# Altium integrated library Infineon_Microcontroller.IntLib: 721 symbols (part 10 of 66)
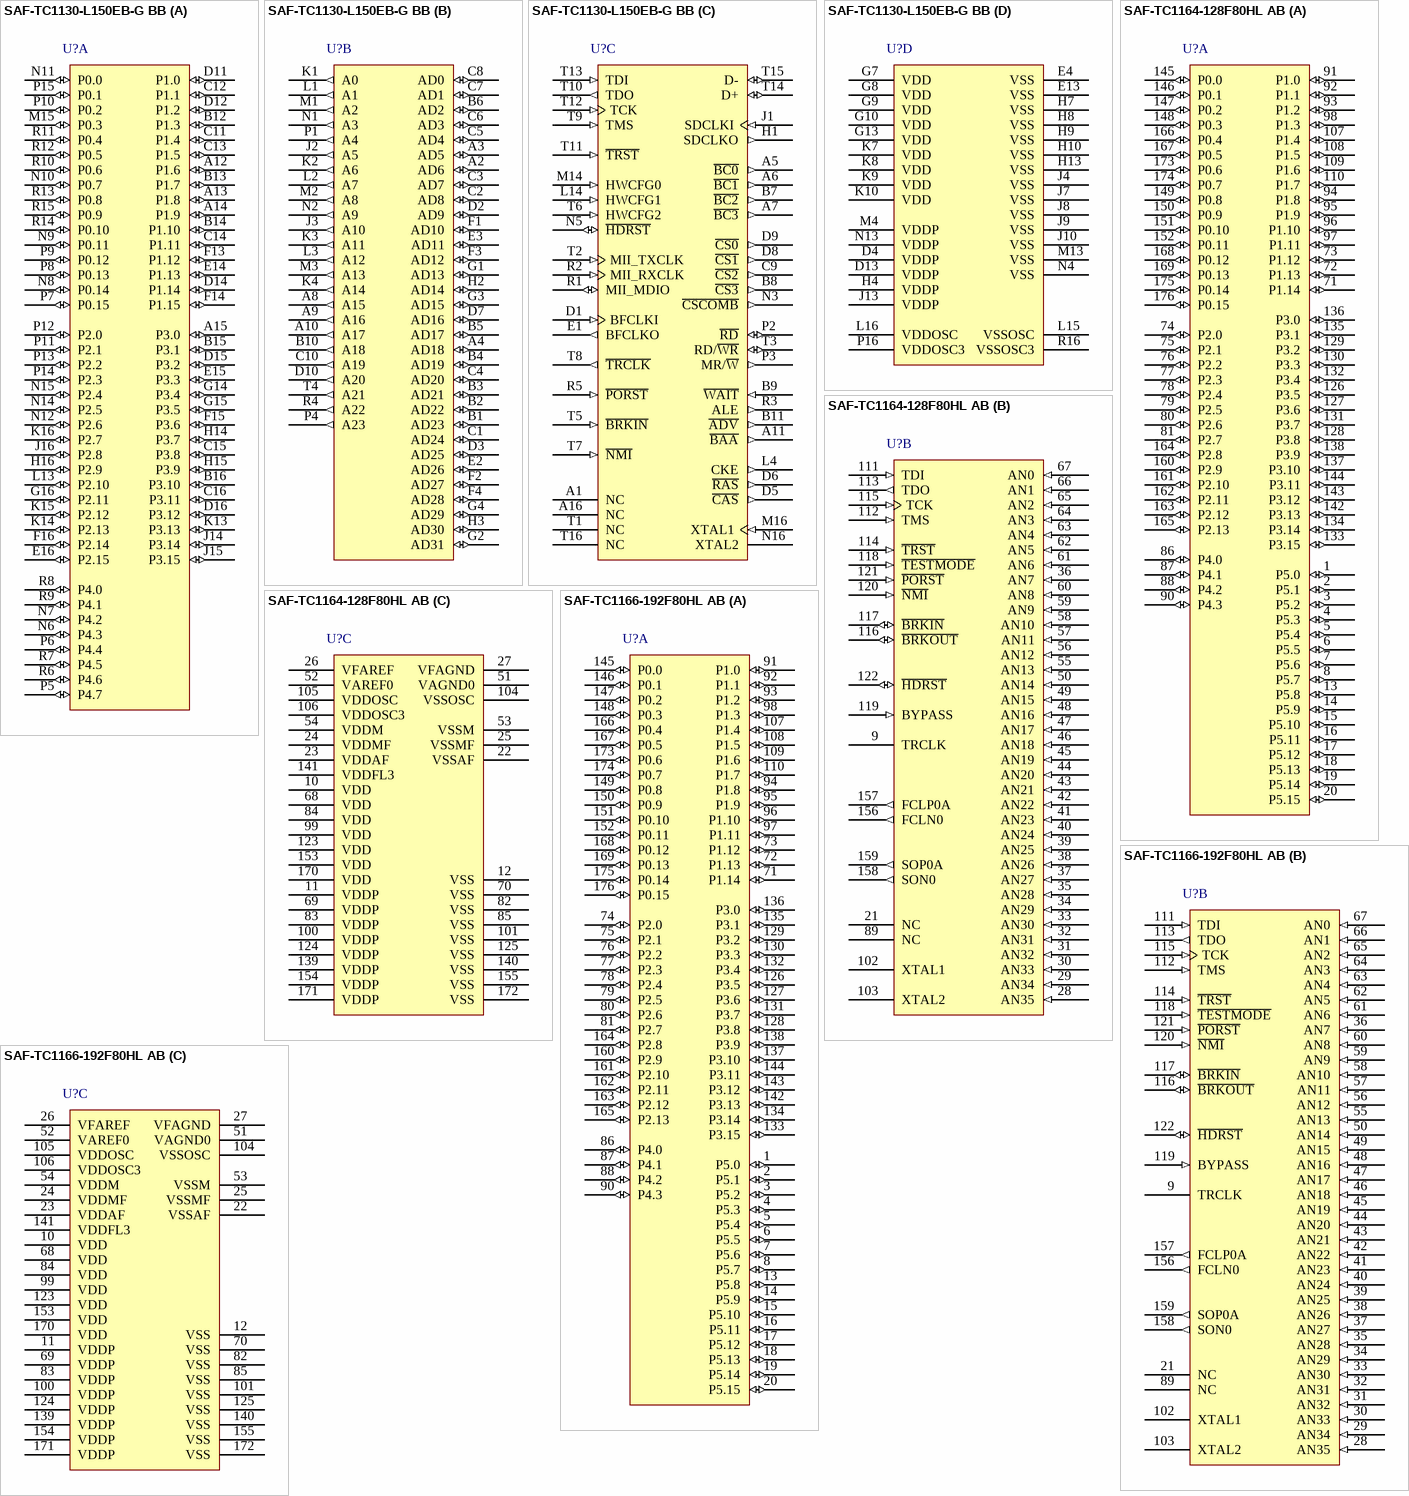
[diagram p127: symbols SAF-TC1130-L150EB-G BB to SAF-TC1166-192F80HL AB]

## SAF-TC1164-128F80HL AB
designator U?
80 MHz TriCore MCU with 1 MB Program Memory, 76 KByte SRAM, -40 to 85 degC, PG-LQFP-176-2, Green; Manufacturer: Infineon; PartNumber: SAF-TC1164-128F80HL AB; A / D input lines (incl. FADC): 36; CAN Nodes: 2; Green: TRUE; Max Clock Frequency: 80 MHz; Packing: Tray; Program Memory: 1 MB; DatasheetVersion: Rev. 1.0; PackageVersion: Jun-08; PackageReference: PG-LQFP-176-2; PackageDescription: 176-Pin Plastic (Green) Low Profile Quad Flat Package, Body 24 x 24 mm, Pitch 0.5 mm; Supplier 1: Digi-Key; Supplier Part Number 1: SAF-TC1164-128F80HL AB-ND; Halogen-free: TRUE; SRAM (incl. Cache): 76 KByte; Mounting Technology: Surface Mount; ComponentLink1Description: Manufacturer URL; ComponentLink1URL: http://www.infineon.com/; ComponentLink2Description: Datasheet; ComponentLink2URL: http://www.infineon.com/dgdl/TC1163_TC1164_ds_v10.pdf?folderId=db3a304412b407950112b408e8c90004&fileId=db3a304412b407950112b40b8a2e085b; ComponentLink3Description: Package Specification; ComponentLink3URL: http://www.infineon.com/dgdl/PG-LQFP-176-2-Package_Overview.pdf?folderId=db3a30431a5c32f2011a91a4a6285a2c&fileId=db3a30431a5c32f2011a91a4f6ee5a2d
footprint INF-PG-LQFP-176-2_N (QFP, 176-Leads, Body 24x24mm, Pitch 0.5mm, IPC Medium Density)
footprint INF-PG-LQFP-176-2_L (QFP, 176-Leads, Body 24x24mm, Pitch 0.5mm, IPC High Density)
footprint INF-PG-LQFP-176-2_M (QFP, 176-Leads, Body 24x24mm, Pitch 0.5mm, IPC Low Density)
part A pins: 1 P5.0 (io), 2 P5.1 (io), 3 P5.2 (io), 4 P5.3 (io), 5 P5.4 (io), 6 P5.5 (io), 7 P5.6 (io), 8 P5.7 (io), 13 P5.8 (io), 14 P5.9 (io), 15 P5.10 (io), 16 P5.11 (io), 17 P5.12 (io), 18 P5.13 (io), 19 P5.14 (io), 20 P5.15 (io), 71 P1.14 (io), 72 P1.13 (io), 73 P1.12 (io), 74 P2.0 (io), 75 P2.1 (io), 76 P2.2 (io), 77 P2.3 (io), 78 P2.4 (io), 79 P2.5 (io), 80 P2.6 (io), 81 P2.7 (io), 86 P4.0 (io), 87 P4.1 (io), 88 P4.2 (io), 90 P4.3 (io), 91 P1.0 (io), 92 P1.1 (io), 93 P1.2 (io), 94 P1.8 (io), 95 P1.9 (io), 96 P1.10 (io), 97 P1.11 (io), 98 P1.3 (io), 107 P1.4 (io), 108 P1.5 (io), 109 P1.6 (io), 110 P1.7 (io), 126 P3.5 (io), 127 P3.6 (io), 128 P3.8 (io), 129 P3.2 (io), 130 P3.3 (io), 131 P3.7 (io), 132 P3.4 (io), 133 P3.15 (io), 134 P3.14 (io), 135 P3.1 (io), 136 P3.0 (io), 137 P3.10 (io), 138 P3.9 (io), 142 P3.13 (io), 143 P3.12 (io), 144 P3.11 (io), 145 P0.0 (io), 146 P0.1 (io), 147 P0.2 (io), 148 P0.3 (io), 149 P0.8 (io), 150 P0.9 (io), 151 P0.10 (io), 152 P0.11 (io), 160 P2.9 (io), 161 P2.10 (io), 162 P2.11 (io), 163 P2.12 (io), 164 P2.8 (io), 165 P2.13 (io), 166 P0.4 (io), 167 P0.5 (io), 168 P0.12 (io), 169 P0.13 (io), 173 P0.6 (io), 174 P0.7 (io), 175 P0.14 (io), 176 P0.15 (io)
part B pins: 9 TRCLK (hiz) "Trace Clock for OCDS_L2 Lines", 21 NC "Not Connected", 28 AN35 (in) "Analog input 35", 29 AN34 (in) "Analog input 34", 30 AN33 (in) "Analog input 33", 31 AN32 (in) "Analog input 32", 32 AN31 (in) "Analog input 31", 33 AN30 (in) "Analog input 30", 34 AN29 (in) "Analog input 29", 35 AN28 (in) "Analog input 28", 36 AN7 (in) "Analog input 7", 37 AN27 (in) "Analog input 27", 38 AN26 (in) "Analog input 26", 39 AN25 (in) "Analog input 25", 40 AN24 (in) "Analog input 24", 41 AN23 (in) "Analog input 23", 42 AN22 (in) "Analog input 22", 43 AN21 (in) "Analog input 21", 44 AN20 (in) "Analog input 20", 45 AN19 (in) "Analog input 19", 46 AN18 (in) "Analog input 18", 47 AN17 (in) "Analog input 17", 48 AN16 (in) "Analog input 16", 49 AN15 (in) "Analog input 15", 50 AN14 (in) "Analog input 14", 55 AN13 (in) "Analog input 13", 56 AN12 (in) "Analog input 12", 57 AN11 (in) "Analog input 11", 58 AN10 (in) "Analog input 10", 59 AN9 (in) "Analog input 9", 60 AN8 (in) "Analog input 8", 61 AN6 (in) "Analog input 6", 62 AN5 (in) "Analog input 5", 63 AN4 (in) "Analog input 4", 64 AN3 (in) "Analog input 3", 65 AN2 (in) "Analog input 2", 66 AN1 (in) "Analog input 1", 67 AN0 (in) "Analog input 0", 89 NC "Not Connected", 102 XTAL1 "Oscillator/PLL/Clock Generator Input Pin", 103 XTAL2 "Oscillator/PLL/Clock Generator Output Pin", 111 TDI (in) "JTAG Module Serial Data Input", 112 TMS (in) "JTAG Module State Machine Control Input", 113 TDO (out) "JTAG Module Serial Data Output", 114 ~{TRST} (in) "JTAG Module Reset/Enable Input", 115 TCK (in) "JTAG Module Clock Input", 116 ~{BRKOUT} (io) "OCDS Break Output (Alternate Input)", 117 ~{BRKIN} (io) "OCDS Break Input (Alternate Output)", 118 ~{TESTMODE} (in) "Test Mode Select Input", 119 BYPASS (in) "PLL Clock Bypass Select Input", 120 ~{NMI} (in) "Non-Maskable Interrupt Input", 121 ~{PORST} (in) "Power-on Reset Input", 122 ~{HDRST} (io) "Hardware Reset Input / Reset Indication Output", 156 FCLN0 (out) "MSC0 Differential Driver Clock Output Negative", 157 FCLP0A (out) "MSC0 Differential Driver Clock Output Positive A", 158 SON0 (out) "MSC0 Differential Driver Serial Data Output Negative", 159 SOP0A (out) "MSC0 Differential Driver Serial Data Output Positive A"
part C pins: 10 VDD (power) "Core Power Supply (1.5 V)", 11 VDDP (power) "Port Power Supply (3.3 V)", 12 VSS (power) "Ground", 22 VSSAF (power) "FADC Analog Part Logic Ground for VDDAF", 23 VDDAF (power) "FADC Analog Part Logic Power Supply (1.5 V)", 24 VDDMF (power) "FADC Analog Part Power Supply (3.3 V)", 25 VSSMF (power) "FADC Analog Part Ground for VDDMF", 26 VFAREF (power) "FADC Reference Voltage", 27 VFAGND (power) "FADC Reference Ground", 51 VAGND0 (power) "ADC Reference Ground", 52 VAREF0 (power) "ADC Reference Voltage", 53 VSSM (power) "ADC Analog Part Ground for VDDM", 54 VDDM (power) "ADC Analog Part Power Supply (3.3 V)", 68 VDD (power) "Core Power Supply (1.5 V)", 69 VDDP (power) "Port Power Supply (3.3 V)", 70 VSS (power) "Ground", 82 VSS (power) "Ground", 83 VDDP (power) "Port Power Supply (3.3 V)", 84 VDD (power) "Core Power Supply (1.5 V)", 85 VSS (power) "Ground", 99 VDD (power) "Core Power Supply (1.5 V)", 100 VDDP (power) "Port Power Supply (3.3 V)", 101 VSS (power) "Ground", 104 VSSOSC (power) "Main Oscillator and PLL Ground", 105 VDDOSC (power) "Main Oscillator and PLL Power Supply (1.5 V)", 106 VDDOSC3 (power) "Main Oscillator Power Supply (3.3 V)", 123 VDD (power) "Core Power Supply (1.5 V)", 124 VDDP (power) "Port Power Supply (3.3 V)", 125 VSS (power) "Ground", 139 VDDP (power) "Port Power Supply (3.3 V)", 140 VSS (power) "Ground", 141 VDDFL3 (power) "Power Supply for Flash (3.3 V)", 153 VDD (power) "Core Power Supply (1.5 V)", 154 VDDP (power) "Port Power Supply (3.3 V)", 155 VSS (power) "Ground", 170 VDD (power) "Core Power Supply (1.5 V)", 171 VDDP (power) "Port Power Supply (3.3 V)", 172 VSS (power) "Ground"

## SAF-TC1166-192F80HL AB
designator U?
80 MHz TriCore MCU with 1 MB Program Memory, 100 KByte SRAM, -40 to 85 degC, PG-LQFP-176-2, Green; Manufacturer: Infineon; PartNumber: SAF-TC1166-192F80HL AB; A / D input lines (incl. FADC): 36; CAN Nodes: 2; Green: TRUE; Max Clock Frequency: 80 MHz; Packing: Tray; Program Memory: 1 MB; DatasheetVersion: Rev. 1.0; PackageVersion: Jun-08; PackageReference: PG-LQFP-176-2; PackageDescription: 176-Pin Plastic (Green) Low Profile Quad Flat Package, Body 24 x 24 mm, Pitch 0.5 mm; Halogen-free: FALSE; SRAM (incl. Cache): 100 KByte; Mounting Technology: Surface Mount; ComponentLink1Description: Manufacturer URL; ComponentLink1URL: http://www.infineon.com/; ComponentLink2Description: Datasheet; ComponentLink2URL: http://www.infineon.com/dgdl/TC1165_TC1166_ds_v10.pdf?folderId=db3a304412b407950112b408e8c90004&fileId=db3a304412b407950112b40c2ab80ab4; ComponentLink3Description: Package Specification; ComponentLink3URL: http://www.infineon.com/dgdl/PG-LQFP-176-2-Package_Overview.pdf?folderId=db3a30431a5c32f2011a91a4a6285a2c&fileId=db3a30431a5c32f2011a91a4f6ee5a2d
footprint INF-PG-LQFP-176-2_N (QFP, 176-Leads, Body 24x24mm, Pitch 0.5mm, IPC Medium Density)
footprint INF-PG-LQFP-176-2_L (QFP, 176-Leads, Body 24x24mm, Pitch 0.5mm, IPC High Density)
footprint INF-PG-LQFP-176-2_M (QFP, 176-Leads, Body 24x24mm, Pitch 0.5mm, IPC Low Density)
part A pins: 1 P5.0 (io), 2 P5.1 (io), 3 P5.2 (io), 4 P5.3 (io), 5 P5.4 (io), 6 P5.5 (io), 7 P5.6 (io), 8 P5.7 (io), 13 P5.8 (io), 14 P5.9 (io), 15 P5.10 (io), 16 P5.11 (io), 17 P5.12 (io), 18 P5.13 (io), 19 P5.14 (io), 20 P5.15 (io), 71 P1.14 (io), 72 P1.13 (io), 73 P1.12 (io), 74 P2.0 (io), 75 P2.1 (io), 76 P2.2 (io), 77 P2.3 (io), 78 P2.4 (io), 79 P2.5 (io), 80 P2.6 (io), 81 P2.7 (io), 86 P4.0 (io), 87 P4.1 (io), 88 P4.2 (io), 90 P4.3 (io), 91 P1.0 (io), 92 P1.1 (io), 93 P1.2 (io), 94 P1.8 (io), 95 P1.9 (io), 96 P1.10 (io), 97 P1.11 (io), 98 P1.3 (io), 107 P1.4 (io), 108 P1.5 (io), 109 P1.6 (io), 110 P1.7 (io), 126 P3.5 (io), 127 P3.6 (io), 128 P3.8 (io), 129 P3.2 (io), 130 P3.3 (io), 131 P3.7 (io), 132 P3.4 (io), 133 P3.15 (io), 134 P3.14 (io), 135 P3.1 (io), 136 P3.0 (io), 137 P3.10 (io), 138 P3.9 (io), 142 P3.13 (io), 143 P3.12 (io), 144 P3.11 (io), 145 P0.0 (io), 146 P0.1 (io), 147 P0.2 (io), 148 P0.3 (io), 149 P0.8 (io), 150 P0.9 (io), 151 P0.10 (io), 152 P0.11 (io), 160 P2.9 (io), 161 P2.10 (io), 162 P2.11 (io), 163 P2.12 (io), 164 P2.8 (io), 165 P2.13 (io), 166 P0.4 (io), 167 P0.5 (io), 168 P0.12 (io), 169 P0.13 (io), 173 P0.6 (io), 174 P0.7 (io), 175 P0.14 (io), 176 P0.15 (io)
part B pins: 9 TRCLK (hiz) "Trace Clock for OCDS_L2 Lines", 21 NC "Not Connected", 28 AN35 (in) "Analog input 35", 29 AN34 (in) "Analog input 34", 30 AN33 (in) "Analog input 33", 31 AN32 (in) "Analog input 32", 32 AN31 (in) "Analog input 31", 33 AN30 (in) "Analog input 30", 34 AN29 (in) "Analog input 29", 35 AN28 (in) "Analog input 28", 36 AN7 (in) "Analog input 7", 37 AN27 (in) "Analog input 27", 38 AN26 (in) "Analog input 26", 39 AN25 (in) "Analog input 25", 40 AN24 (in) "Analog input 24", 41 AN23 (in) "Analog input 23", 42 AN22 (in) "Analog input 22", 43 AN21 (in) "Analog input 21", 44 AN20 (in) "Analog input 20", 45 AN19 (in) "Analog input 19", 46 AN18 (in) "Analog input 18", 47 AN17 (in) "Analog input 17", 48 AN16 (in) "Analog input 16", 49 AN15 (in) "Analog input 15", 50 AN14 (in) "Analog input 14", 55 AN13 (in) "Analog input 13", 56 AN12 (in) "Analog input 12", 57 AN11 (in) "Analog input 11", 58 AN10 (in) "Analog input 10", 59 AN9 (in) "Analog input 9", 60 AN8 (in) "Analog input 8", 61 AN6 (in) "Analog input 6", 62 AN5 (in) "Analog input 5", 63 AN4 (in) "Analog input 4", 64 AN3 (in) "Analog input 3", 65 AN2 (in) "Analog input 2", 66 AN1 (in) "Analog input 1", 67 AN0 (in) "Analog input 0", 89 NC "Not Connected", 102 XTAL1 "Oscillator/PLL/Clock Generator Input Pin", 103 XTAL2 "Oscillator/PLL/Clock Generator Output Pin", 111 TDI (in) "JTAG Module Serial Data Input", 112 TMS (in) "JTAG Module State Machine Control Input", 113 TDO (out) "JTAG Module Serial Data Output", 114 ~{TRST} (in) "JTAG Module Reset/Enable Input", 115 TCK (in) "JTAG Module Clock Input", 116 ~{BRKOUT} (io) "OCDS Break Output (Alternate Input)", 117 ~{BRKIN} (io) "OCDS Break Input (Alternate Output)", 118 ~{TESTMODE} (in) "Test Mode Select Input", 119 BYPASS (in) "PLL Clock Bypass Select Input", 120 ~{NMI} (in) "Non-Maskable Interrupt Input", 121 ~{PORST} (in) "Power-on Reset Input", 122 ~{HDRST} (io) "Hardware Reset Input / Reset Indication Output", 156 FCLN0 (out) "MSC0 Differential Driver Clock Output Negative", 157 FCLP0A (out) "MSC0 Differential Driver Clock Output Positive A", 158 SON0 (out) "MSC0 Differential Driver Serial Data Output Negative", 159 SOP0A (out) "MSC0 Differential Driver Serial Data Output Positive A"
part C pins: 10 VDD (power) "Core Power Supply (1.5 V)", 11 VDDP (power) "Port Power Supply (3.3 V)", 12 VSS (power) "Ground", 22 VSSAF (power) "FADC Analog Part Logic Ground for VDDAF", 23 VDDAF (power) "FADC Analog Part Logic Power Supply (1.5 V)", 24 VDDMF (power) "FADC Analog Part Power Supply (3.3 V)", 25 VSSMF (power) "FADC Analog Part Ground for VDDMF", 26 VFAREF (power) "FADC Reference Voltage", 27 VFAGND (power) "FADC Reference Ground", 51 VAGND0 (power) "ADC Reference Ground", 52 VAREF0 (power) "ADC Reference Voltage", 53 VSSM (power) "ADC Analog Part Ground for VDDM", 54 VDDM (power) "ADC Analog Part Power Supply (3.3 V)", 68 VDD (power) "Core Power Supply (1.5 V)", 69 VDDP (power) "Port Power Supply (3.3 V)", 70 VSS (power) "Ground", 82 VSS (power) "Ground", 83 VDDP (power) "Port Power Supply (3.3 V)", 84 VDD (power) "Core Power Supply (1.5 V)", 85 VSS (power) "Ground", 99 VDD (power) "Core Power Supply (1.5 V)", 100 VDDP (power) "Port Power Supply (3.3 V)", 101 VSS (power) "Ground", 104 VSSOSC (power) "Main Oscillator and PLL Ground", 105 VDDOSC (power) "Main Oscillator and PLL Power Supply (1.5 V)", 106 VDDOSC3 (power) "Main Oscillator Power Supply (3.3 V)", 123 VDD (power) "Core Power Supply (1.5 V)", 124 VDDP (power) "Port Power Supply (3.3 V)", 125 VSS (power) "Ground", 139 VDDP (power) "Port Power Supply (3.3 V)", 140 VSS (power) "Ground", 141 VDDFL3 (power) "Power Supply for Flash (3.3 V)", 153 VDD (power) "Core Power Supply (1.5 V)", 154 VDDP (power) "Port Power Supply (3.3 V)", 155 VSS (power) "Ground", 170 VDD (power) "Core Power Supply (1.5 V)", 171 VDDP (power) "Port Power Supply (3.3 V)", 172 VSS (power) "Ground"

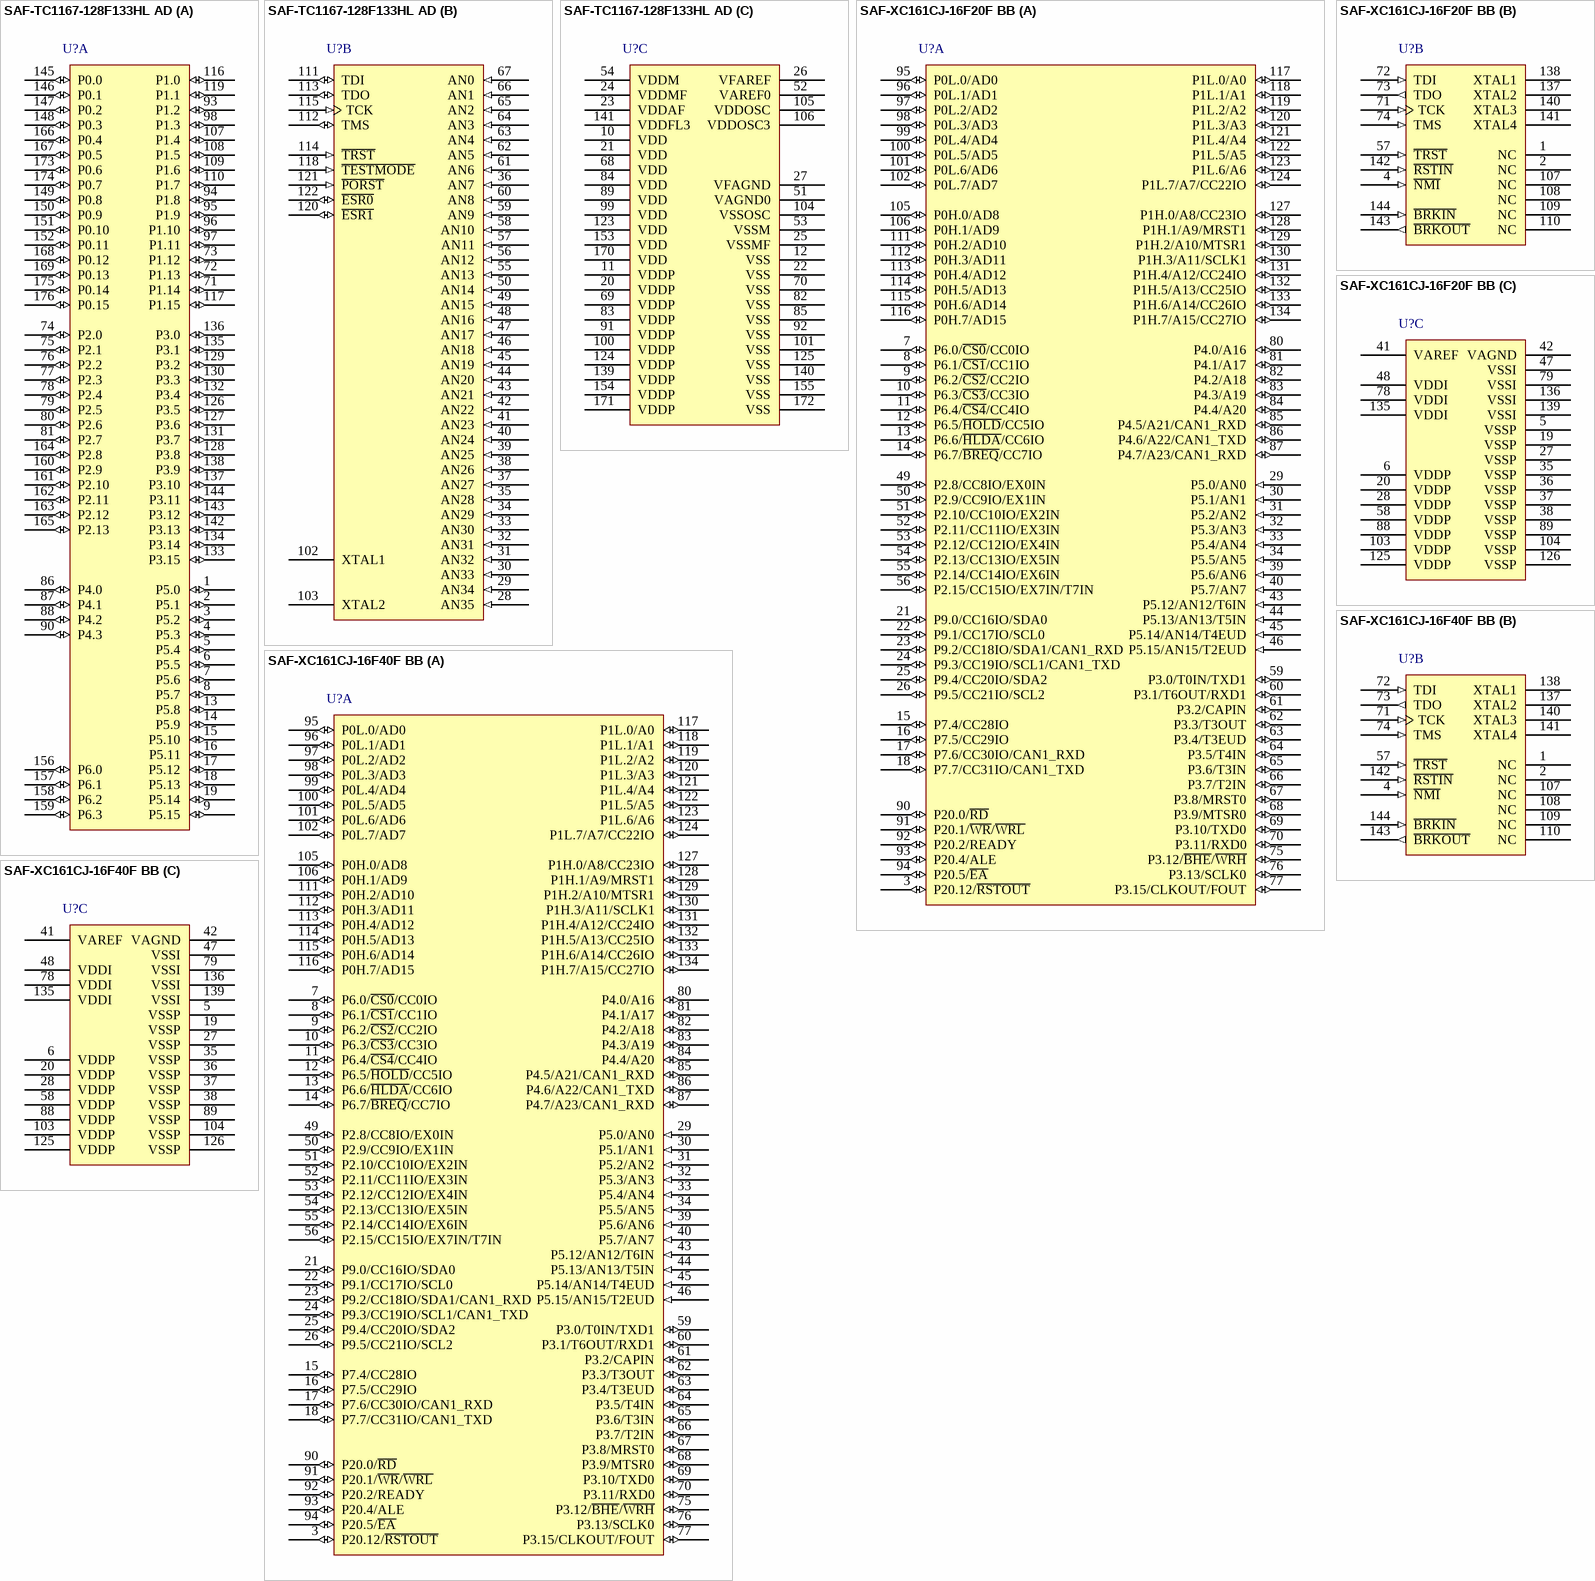
[diagram p15: symbols SAF-TC1167-128F133HL AD to SAF-XC161CJ-16F40F BB]

## SAF-TC1167-128F133HL AD
designator U?
133 MHz TC11 MCU with 1 MB Program Memory, 128 KByte SRAM, 3.3 V, 5.0 V, -40 to 85 degC, PG-LQFP-176, Reel, Green; Manufacturer: Infineon; PartNumber: SAF-TC1167-128F133HL AD; A / D input lines (incl. FADC): 36; CAN Nodes: 2; Digital I/O Lines: 86; DMA Channels: 8; DSP functionality (e.g MDU/MAC): TRUE; External Bus interface: FALSE; Instruction width [bits]: 32/16; Max Clock Frequency: 133 MHz; Power Modes: 3; Program Memory: 1 MB; Serial I/O Interfaces: 6; Timed I/O Pins (PWM-Ch,CAPCOM): 80; Timer / Counter: 130; Type of Memory: Flash; Type of Serial I/O Interfaces: ASC(2), SSC(2), MSC(1), MLI(1); DatasheetVersion: Rev. 1.3; PackageVersion: Aug-08; PackageReference: PG-LQFP-176-5; PackageDescription: 176-Pin Plastic (Green) Low Profile Quad Flat Package, Body 24 x 24 mm, Pitch 0.5 mm; Supplier 1: Digi-Key; Supplier Part Number 1: SAF-TC1167-128F133HL AD-ND; E2PROM Emulation (Data-Flash): TRUE; Floating Point Unit: TRUE; Green: TRUE; I/O Operation Voltages: 3.3 V, 5.0 V; Number of ADC Modules: 2; On-chip clock generation: TRUE; Oscillator Watchdog: TRUE; Packing: Reel; Peripheral Control Processor (PCP): TRUE; SRAM (incl. Cache): 128 KByte; Watchdog Timer: TRUE; Mounting Technology: Surface Mount; ComponentLink1Description: Manufacturer URL; ComponentLink1URL: http://www.infineon.com/; ComponentLink2Description: Datasheet; ComponentLink2URL: http://www.infineon.com/dgdl/TC1167_DS_V1.3.pdf?folderId=db3a304318f3fe2901190e815f285607&fileId=db3a3043243b5f170124777548ba4ec3; ComponentLink3Description: Package Specification; ComponentLink3URL: http://www.infineon.com/dgdl/PG-LQFP-176-5-Package_Overview.pdf?folderId=db3a30431b3e89eb011b9dcad2aa0d1e&fileId=db3a30431b3e89eb011bc12d64b30464
footprint INF-PG-LQFP-176-5_N (QFP, 176-Leads, Body 24x24mm, Pitch 0.5mm, IPC Medium Density)
footprint INF-PG-LQFP-176-5_L (QFP, 176-Leads, Body 24x24mm, Pitch 0.5mm, IPC High Density)
footprint INF-PG-LQFP-176-5_M (QFP, 176-Leads, Body 24x24mm, Pitch 0.5mm,IPC Low Density)
part A pins: 1 P5.0 (io), 2 P5.1 (io), 3 P5.2 (io), 4 P5.3 (io), 5 P5.4 (io), 6 P5.5 (io), 7 P5.6 (io), 8 P5.7 (io), 9 P5.15 (io), 13 P5.8 (io), 14 P5.9 (io), 15 P5.10 (io), 16 P5.11 (io), 17 P5.12 (io), 18 P5.13 (io), 19 P5.14 (io), 71 P1.14 (io), 72 P1.13 (io), 73 P1.12 (io), 74 P2.0 (io), 75 P2.1 (io), 76 P2.2 (io), 77 P2.3 (io), 78 P2.4 (io), 79 P2.5 (io), 80 P2.6 (io), 81 P2.7 (io), 86 P4.0 (io), 87 P4.1 (io), 88 P4.2 (io), 90 P4.3 (io), 93 P1.2 (io), 94 P1.8 (io), 95 P1.9 (io), 96 P1.10 (io), 97 P1.11 (io), 98 P1.3 (io), 107 P1.4 (io), 108 P1.5 (io), 109 P1.6 (io), 110 P1.7 (io), 116 P1.0 (io), 117 P1.15 (io), 119 P1.1 (io), 126 P3.5 (io), 127 P3.6 (io), 128 P3.8 (io), 129 P3.2 (io), 130 P3.3 (io), 131 P3.7 (io), 132 P3.4 (io), 133 P3.15 (io), 134 P3.14 (io), 135 P3.1 (io), 136 P3.0 (io), 137 P3.10 (io), 138 P3.9 (io), 142 P3.13 (io), 143 P3.12 (io), 144 P3.11 (io), 145 P0.0 (io), 146 P0.1 (io), 147 P0.2 (io), 148 P0.3 (io), 149 P0.8 (io), 150 P0.9 (io), 151 P0.10 (io), 152 P0.11 (io), 156 P6.0 (io), 157 P6.1 (io), 158 P6.2 (io), 159 P6.3 (io), 160 P2.9 (io), 161 P2.10 (io), 162 P2.11 (io), 163 P2.12 (io), 164 P2.8 (io), 165 P2.13 (io), 166 P0.4 (io), 167 P0.5 (io), 168 P0.12 (io), 169 P0.13 (io), 173 P0.6 (io), 174 P0.7 (io), 175 P0.14 (io), 176 P0.15 (io)
part B pins: 28 AN35 (in) "Analog Input 35", 29 AN34 (in) "Analog Input 34", 30 AN33 (in) "Analog Input 33", 31 AN32 (in) "Analog Input 32", 32 AN31 (in) "Analog Input 31", 33 AN30 (in) "Analog Input 30", 34 AN29 (in) "Analog Input 29", 35 AN28 (in) "Analog Input 28", 36 AN7 (in) "Analog Input 7", 37 AN27 (in) "Analog Input 27", 38 AN26 (in) "Analog Input 26", 39 AN25 (in) "Analog Input 25", 40 AN24 (in) "Analog Input 24", 41 AN23 (in) "Analog Input 23", 42 AN22 (in) "Analog Input 22", 43 AN21 (in) "Analog Input 21", 44 AN20 (in) "Analog Input 20", 45 AN19 (in) "Analog Input 19", 46 AN18 (in) "Analog Input 18", 47 AN17 (in) "Analog Input 17", 48 AN16 (in) "Analog Input 16", 49 AN15 (in) "Analog Input 15", 50 AN14 (in) "Analog Input 14", 55 AN13 (in) "Analog Input 13", 56 AN12 (in) "Analog Input 12", 57 AN11 (in) "Analog Input 11", 58 AN10 (in) "Analog Input 10", 59 AN9 (in) "Analog Input 9", 60 AN8 (in) "Analog Input 8", 61 AN6 (in) "Analog Input 6", 62 AN5 (in) "Analog Input 5", 63 AN4 (in) "Analog Input 4", 64 AN3 (in) "Analog Input 3", 65 AN2 (in) "Analog Input 2", 66 AN1 (in) "Analog Input 1", 67 AN0 (in) "Analog Input 0", 102 XTAL1 "Main Oscillator Input", 103 XTAL2 "Main Oscillator Output", 111 TDI (io), 112 TMS (io), 113 TDO (io), 114 ~{TRST} (in) "JTAG Reset Input", 115 TCK (in), 118 ~{TESTMODE} (in) "Test Mode Select Input", 120 ~{ESR1} (io) "External System Request Reset Input 1", 121 ~{PORST} (in) "Power On Reset Input", 122 ~{ESR0} (io) "External System Request Reset Input 0"
part C pins: 10 VDD (power) "Digital Core Power Supply (1.5V)", 11 VDDP (power) "Port Power Supply (3.3V)", 12 VSS (power) "Digital Ground", 20 VDDP (power) "Port Power Supply (3.3V)", 21 VDD (power) "Digital Core Power Supply (1.5V)", 22 VSS (power) "Digital Ground", 23 VDDAF (power) "FADC Analog Part Logic Power Supply (1.5V)", 24 VDDMF (power) "FADC Analog Part Power Supply (3.3V)", 25 VSSMF (power), 26 VFAREF (power) "FADC Reference Voltage", 27 VFAGND (power) "FADC Reference Ground", 51 VAGND0 (power) "ADC Reference Ground", 52 VAREF0 (power), 53 VSSM (power) "ADC Analog Part Ground", 54 VDDM (power) "ADC Analog Part Power Supply (3.3V - 5V)", 68 VDD (power) "Digital Core Power Supply (1.5V)", 69 VDDP (power) "Port Power Supply (3.3V)", 70 VSS (power) "Digital Ground", 82 VSS (power) "Digital Ground", 83 VDDP (power) "Port Power Supply (3.3V)", 84 VDD (power) "Digital Core Power Supply (1.5V)", 85 VSS (power) "Digital Ground", 89 VDD (power) "Digital Core Power Supply (1.5V)", 91 VDDP (power) "Port Power Supply (3.3V)", 92 VSS (power) "Digital Ground", 99 VDD (power) "Digital Core Power Supply (1.5V)", 100 VDDP (power) "Port Power Supply (3.3V)", 101 VSS (power) "Digital Ground", 104 VSSOSC (power) "Main Oscillator and PLL Ground", 105 VDDOSC (power) "Main Oscillator and PLL Power Supply (1.5V)", 106 VDDOSC3 (power) "Main Oscillator Power Supply (3.3V)", 123 VDD (power) "Digital Core Power Supply (1.5V)", 124 VDDP (power) "Port Power Supply (3.3V)", 125 VSS (power) "Digital Ground", 139 VDDP (power) "Port Power Supply (3.3V)", 140 VSS (power) "Digital Ground", 141 VDDFL3 (power) "Power Supply for Flash (3.3V)", 153 VDD (power) "Digital Core Power Supply (1.5V)", 154 VDDP (power) "Port Power Supply (3.3V)", 155 VSS (power) "Digital Ground", 170 VDD (power) "Digital Core Power Supply (1.5V)", 171 VDDP (power) "Port Power Supply (3.3V)", 172 VSS (power) "Digital Ground"

## SAF-XC161CJ-16F20F BB
designator U?
20 MHz XC166 MCU with 128 KByte Program Memory, 8 KByte SRAM, 5 V, -40 to 85 degC, PG-TQFP-144; Manufacturer: Infineon; PartNumber: SAF-XC161CJ-16F20F BB; A / D input lines (incl. FADC): 12; CAN Nodes: 2; Digital I/O Lines: 99; DSP functionality (e.g MDU/MAC): TRUE; I/O Operation Voltages: 5 V; Instruction width [bits]: 16; Max Clock Frequency: 20 MHz; Number of ADC Modules: 1; Power Modes: 3; Serial I/O Interfaces: 6; SRAM (incl. Cache): 8 KByte; Timed I/O Pins (PWM-Ch,CAPCOM): 32; Timer / Counter: 9; Type of Memory: Flash; Type of Serial I/O Interfaces: ASC(2), SSC(2), SDLM(1), I2C(1), J1850; DatasheetVersion: Rev. 2.4; PackageVersion: V1.1, 08/2006; PackageReference: PG-TQFP-144-7; PackageDescription: 144-Pin Plastic Green Thin Quad Flat Package, Body 20 x 20 mm, Pitch 0.5 mm; Supplier 1: Digi-Key; Supplier Part Number 1: SAF-XC161CJ-16F20F BB-ND; External Bus interface: TRUE; Oscillator Watchdog: TRUE; Program Memory: 128 KByte; Real Time Clock (RTC): TRUE; Watchdog Timer: TRUE; Mounting Technology: Surface Mount; Code_JEDEC: J-STD-020C; ComponentLink1Description: Manufacturer URL; ComponentLink1URL: http://www.infineon.com/; ComponentLink2Description: Datasheet; ComponentLink2URL: http://www.infineon.com/dgdl/xc161_16_ds_v2.4_2006_08.pdf?folderId=db3a304412b407950112b408e8c90004&fileId=db3a304412b407950112b41cd87f2ef8; ComponentLink3Description: Package Specification; ComponentLink3URL: http://www.infineon.com/dgdl/xc167_32_ds_v1.1_2006_08.pdf?folderId=db3a304412b407950112b408e8c90004&fileId=db3a304412b407950112b41c637b2e04&sId=db3a30433d956bc3013d9c1678401507
footprint INF-PG-TQFP-144-7_N (QFP, 144-Leads, Body 20x20mm, Pitch 0.5mm, IPC Medium Density)
footprint INF-PG-TQFP-144-7_L (QFP, 144-Leads, Body 20x20mm, Pitch 0.5mm, IPC High Density)
footprint INF-PG-TQFP-144-7_M (QFP, 144-Leads, Body 20x20mm, Pitch 0.5mm, IPC Low Density)
part A pins: 3 P20.12/~{RSTOUT} (io), 7 P6.0/~{CS0}/CC0IO (io), 8 P6.1/~{CS1}/CC1IO (io), 9 P6.2/~{CS2}/CC2IO (io), 10 P6.3/~{CS3}/CC3IO (io), 11 P6.4/~{CS4}/CC4IO (io), 12 P6.5/~{HOLD}/CC5IO (io), 13 P6.6/~{HLDA}/CC6IO (io), 14 P6.7/~{BREQ}/CC7IO (io), 15 P7.4/CC28IO (io), 16 P7.5/CC29IO (io), 17 P7.6/CC30IO/CAN1_RXD (io), 18 P7.7/CC31IO/CAN1_TXD (io), 21 P9.0/CC16IO/SDA0 (io), 22 P9.1/CC17IO/SCL0 (io), 23 P9.2/CC18IO/SDA1/CAN1_RXD (io), 24 P9.3/CC19IO/SCL1/CAN1_TXD (io), 25 P9.4/CC20IO/SDA2 (io), 26 P9.5/CC21IO/SCL2 (io), 29 P5.0/AN0 (in), 30 P5.1/AN1 (in), 31 P5.2/AN2 (in), 32 P5.3/AN3 (in), 33 P5.4/AN4 (in), 34 P5.5/AN5 (in), 39 P5.6/AN6 (in), 40 P5.7/AN7 (in), 43 P5.12/AN12/T6IN (in), 44 P5.13/AN13/T5IN (in), 45 P5.14/AN14/T4EUD (in), 46 P5.15/AN15/T2EUD (in), 49 P2.8/CC8IO/EX0IN (io), 50 P2.9/CC9IO/EX1IN (io), 51 P2.10/CC10IO/EX2IN (io), 52 P2.11/CC11IO/EX3IN (io), 53 P2.12/CC12IO/EX4IN (io), 54 P2.13/CC13IO/EX5IN (io), 55 P2.14/CC14IO/EX6IN (io), 56 P2.15/CC15IO/EX7IN/T7IN (io), 59 P3.0/T0IN/TXD1 (io), 60 P3.1/T6OUT/RXD1 (io), 61 P3.2/CAPIN (io), 62 P3.3/T3OUT (io), 63 P3.4/T3EUD (io), 64 P3.5/T4IN (io), 65 P3.6/T3IN (io), 66 P3.7/T2IN (io), 67 P3.8/MRST0 (io), 68 P3.9/MTSR0 (io), 69 P3.10/TXD0 (io), 70 P3.11/RXD0 (io), 75 P3.12/~{BHE}/~{WRH} (io), 76 P3.13/SCLK0 (io), 77 P3.15/CLKOUT/FOUT (io), 80 P4.0/A16 (io), 81 P4.1/A17 (io), 82 P4.2/A18 (io), 83 P4.3/A19 (io), 84 P4.4/A20 (io), 85 P4.5/A21/CAN1_RXD (io), 86 P4.6/A22/CAN1_TXD (io), 87 P4.7/A23/CAN1_RXD (io), 90 P20.0/~{RD} (io), 91 P20.1/~{WR}/~{WRL} (io), 92 P20.2/READY (io), 93 P20.4/ALE (io), 94 P20.5/~{EA} (io), 95 P0L.0/AD0 (io), 96 P0L.1/AD1 (io), 97 P0L.2/AD2 (io), 98 P0L.3/AD3 (io), 99 P0L.4/AD4 (io), 100 P0L.5/AD5 (io), 101 P0L.6/AD6 (io), 102 P0L.7/AD7 (io), 105 P0H.0/AD8 (io), 106 P0H.1/AD9 (io), 111 P0H.2/AD10 (io), 112 P0H.3/AD11 (io), 113 P0H.4/AD12 (io), 114 P0H.5/AD13 (io), 115 P0H.6/AD14 (io), 116 P0H.7/AD15 (io), 117 P1L.0/A0 (io), 118 P1L.1/A1 (io), 119 P1L.2/A2 (io), 120 P1L.3/A3 (io), 121 P1L.4/A4 (io), 122 P1L.5/A5 (io), 123 P1L.6/A6 (io), 124 P1L.7/A7/CC22IO (io), 127 P1H.0/A8/CC23IO (io), 128 P1H.1/A9/MRST1 (io), 129 P1H.2/A10/MTSR1 (io), 130 P1H.3/A11/SCLK1 (io), 131 P1H.4/A12/CC24IO (io), 132 P1H.5/A13/CC25IO (io), 133 P1H.6/A14/CC26IO (io), 134 P1H.7/A15/CC27IO (io)
part B pins: 1 NC "No connection. It is recommended not to connect these pins to the PCB.", 2 NC "No connection. It is recommended not to connect these pins to the PCB.", 4 ~{NMI} (in) "Non-Maskable Interrupt Input. A high to low transition at this pin causes the CPU to vector to the NMI trap routine. When the PWRDN (power down) instruction is executed, the N\M\I\ pin must be low in order to force the XC161 (See Datasheet)", 57 ~{TRST} (in) "Test-System Reset Input. For normal system operation, pin T\R\S\T\ should be held low. A high level at this pin at the rising edge of R\S\T\I\N\ activates the XC164CM¡¯s debug system. In this case, pin T\R\S\T\ must b(See Datasheet)", 71 TCK (in) "JTAG Clock Input", 72 TDI (in) "JTAG Data In", 73 TDO (out) "JTAG Data Out", 74 TMS (in) "JTAG Test Mode Selection", 107 NC "No connection. It is recommended not to connect these pins to the PCB.", 108 NC "No connection. It is recommended not to connect these pins to the PCB.", 109 NC "No connection. It is recommended not to connect these pins to the PCB.", 110 NC "No connection. It is recommended not to connect these pins to the PCB.", 137 XTAL2 "Output of the main oscillator amplifier circuit", 138 XTAL1 "Input to the main oscillator amplifier and input to the internal clock generator.", 140 XTAL3 "Input to the auxiliary (32-kHz) oscillator amplifier", 141 XTAL4 "Output of the auxiliary (32-kHz) oscillator amplifier circuit", 142 ~{RSTIN} (in) "Reset Input with Schmitt-Trigger characteristics. A low-level at this pin while the oscillator is running resets the XC161. A spike filter suppresses input pulses < 10 ns. Input pulses > 100 ns safely pass the filter. The (See Datasheet)", 143 ~{BRKOUT} (out) "Debug System: Break Out", 144 ~{BRKIN} (in) "Debug System: Break In"
part C pins: 5 VSSP (power) "Digital Ground", 6 VDDP (power) "Digital Pad Supply Voltage (Pin Output Drivers): +5 V during normal operation and idle mode.", 19 VSSP (power) "Digital Ground", 20 VDDP (power) "Digital Pad Supply Voltage (Pin Output Drivers): +5 V during normal operation and idle mode.", 27 VSSP (power) "Digital Ground", 28 VDDP (power) "Digital Pad Supply Voltage (Pin Output Drivers): +5 V during normal operation and idle mode.", 35 VSSP (power) "Digital Ground", 36 VSSP (power) "Digital Ground", 37 VSSP (power) "Digital Ground", 38 VSSP (power) "Digital Ground", 41 VAREF (power) "Reference voltage for the A/D converter.", 42 VAGND (power) "Reference ground for the A/D converter.", 47 VSSI (power) "Digital Ground", 48 VDDI (power) "Digital Core Supply Voltage (On-Chip Modules): +2.5 V during normal operation and idle mode.", 58 VDDP (power) "Digital Pad Supply Voltage (Pin Output Drivers): +5 V during normal operation and idle mode.", 78 VDDI (power) "Digital Core Supply Voltage (On-Chip Modules): +2.5 V during normal operation and idle mode.", 79 VSSI (power) "Digital Ground", 88 VDDP (power) "Digital Pad Supply Voltage (Pin Output Drivers): +5 V during normal operation and idle mode.", 89 VSSP (power) "Digital Ground", 103 VDDP (power) "Digital Pad Supply Voltage (Pin Output Drivers): +5 V during normal operation and idle mode.", 104 VSSP (power) "Digital Ground", 125 VDDP (power) "Digital Pad Supply Voltage (Pin Output Drivers): +5 V during normal operation and idle mode.", 126 VSSP (power) "Digital Ground", 135 VDDI (power) "Digital Core Supply Voltage (On-Chip Modules): +2.5 V during normal operation and idle mode.", 136 VSSI (power) "Digital Ground", 139 VSSI (power) "Digital Ground"

## SAF-XC161CJ-16F40F BB
designator U?
40 MHz XC166 MCU with 128 KByte Program Memory, 8 KByte SRAM, 5 V, -40 to 85 degC, PG-TQFP-144, Reel, Green; Manufacturer: Infineon; PartNumber: SAF-XC161CJ-16F40F BB; A / D input lines (incl. FADC): 12; CAN Nodes: 2; Digital I/O Lines: 99; DSP functionality (e.g MDU/MAC): TRUE; I/O Operation Voltages: 5 V; Instruction width [bits]: 16; Max Clock Frequency: 40 MHz; Number of ADC Modules: 1; Power Modes: 3; Serial I/O Interfaces: 6; SRAM (incl. Cache): 8 KByte; Timed I/O Pins (PWM-Ch,CAPCOM): 32; Timer / Counter: 9; Type of Memory: Flash; Type of Serial I/O Interfaces: ASC(2), SSC(2), SDLM(1), I2C(1), J1850; DatasheetVersion: Rev. 2.4; PackageVersion: V1.1, 08/2006; PackageReference: PG-TQFP-144-7; PackageDescription: 144-Pin Plastic Green Thin Quad Flat Package, Body 20 x 20 mm, Pitch 0.5 mm; Supplier 1: Mouser; Supplier Part Number 1: 726-SAFXC161CJ16F40F; Supplier 2: Newark; Supplier Part Number 2: 47W3694; Supplier 3: Farnell; Supplier Part Number 3: 2212037; Supplier 4: Digi-Key; Supplier Part Number 4: SAF-XC161CJ-16F40F BB-ND; External Bus interface: TRUE; Green: TRUE; Halogen-free: TRUE; Oscillator Watchdog: TRUE; Packing: Reel; Program Memory: 128 KByte; Real Time Clock (RTC): TRUE; Watchdog Timer: TRUE; Mounting Technology: Surface Mount; Code_JEDEC: J-STD-020C; ComponentLink1Description: Manufacturer URL; ComponentLink1URL: http://www.infineon.com/; ComponentLink2Description: Datasheet; ComponentLink2URL: http://www.infineon.com/dgdl/xc161_16_ds_v2.4_2006_08.pdf?folderId=db3a304412b407950112b408e8c90004&fileId=db3a304412b407950112b41cd87f2ef8; ComponentLink3Description: Package Specification; ComponentLink3URL: http://www.infineon.com/dgdl/xc167_32_ds_v1.1_2006_08.pdf?folderId=db3a304412b407950112b408e8c90004&fileId=db3a304412b407950112b41c637b2e04&sId=db3a30433d956bc3013d9c1678401507
footprint INF-PG-TQFP-144-7_N (QFP, 144-Leads, Body 20x20mm, Pitch 0.5mm, IPC Medium Density)
footprint INF-PG-TQFP-144-7_L (QFP, 144-Leads, Body 20x20mm, Pitch 0.5mm, IPC High Density)
footprint INF-PG-TQFP-144-7_M (QFP, 144-Leads, Body 20x20mm, Pitch 0.5mm, IPC Low Density)
part A pins: 3 P20.12/~{RSTOUT} (io), 7 P6.0/~{CS0}/CC0IO (io), 8 P6.1/~{CS1}/CC1IO (io), 9 P6.2/~{CS2}/CC2IO (io), 10 P6.3/~{CS3}/CC3IO (io), 11 P6.4/~{CS4}/CC4IO (io), 12 P6.5/~{HOLD}/CC5IO (io), 13 P6.6/~{HLDA}/CC6IO (io), 14 P6.7/~{BREQ}/CC7IO (io), 15 P7.4/CC28IO (io), 16 P7.5/CC29IO (io), 17 P7.6/CC30IO/CAN1_RXD (io), 18 P7.7/CC31IO/CAN1_TXD (io), 21 P9.0/CC16IO/SDA0 (io), 22 P9.1/CC17IO/SCL0 (io), 23 P9.2/CC18IO/SDA1/CAN1_RXD (io), 24 P9.3/CC19IO/SCL1/CAN1_TXD (io), 25 P9.4/CC20IO/SDA2 (io), 26 P9.5/CC21IO/SCL2 (io), 29 P5.0/AN0 (in), 30 P5.1/AN1 (in), 31 P5.2/AN2 (in), 32 P5.3/AN3 (in), 33 P5.4/AN4 (in), 34 P5.5/AN5 (in), 39 P5.6/AN6 (in), 40 P5.7/AN7 (in), 43 P5.12/AN12/T6IN (in), 44 P5.13/AN13/T5IN (in), 45 P5.14/AN14/T4EUD (in), 46 P5.15/AN15/T2EUD (in), 49 P2.8/CC8IO/EX0IN (io), 50 P2.9/CC9IO/EX1IN (io), 51 P2.10/CC10IO/EX2IN (io), 52 P2.11/CC11IO/EX3IN (io), 53 P2.12/CC12IO/EX4IN (io), 54 P2.13/CC13IO/EX5IN (io), 55 P2.14/CC14IO/EX6IN (io), 56 P2.15/CC15IO/EX7IN/T7IN (io), 59 P3.0/T0IN/TXD1 (io), 60 P3.1/T6OUT/RXD1 (io), 61 P3.2/CAPIN (io), 62 P3.3/T3OUT (io), 63 P3.4/T3EUD (io), 64 P3.5/T4IN (io), 65 P3.6/T3IN (io), 66 P3.7/T2IN (io), 67 P3.8/MRST0 (io), 68 P3.9/MTSR0 (io), 69 P3.10/TXD0 (io), 70 P3.11/RXD0 (io), 75 P3.12/~{BHE}/~{WRH} (io), 76 P3.13/SCLK0 (io), 77 P3.15/CLKOUT/FOUT (io), 80 P4.0/A16 (io), 81 P4.1/A17 (io), 82 P4.2/A18 (io), 83 P4.3/A19 (io), 84 P4.4/A20 (io), 85 P4.5/A21/CAN1_RXD (io), 86 P4.6/A22/CAN1_TXD (io), 87 P4.7/A23/CAN1_RXD (io), 90 P20.0/~{RD} (io), 91 P20.1/~{WR}/~{WRL} (io), 92 P20.2/READY (io), 93 P20.4/ALE (io), 94 P20.5/~{EA} (io), 95 P0L.0/AD0 (io), 96 P0L.1/AD1 (io), 97 P0L.2/AD2 (io), 98 P0L.3/AD3 (io), 99 P0L.4/AD4 (io), 100 P0L.5/AD5 (io), 101 P0L.6/AD6 (io), 102 P0L.7/AD7 (io), 105 P0H.0/AD8 (io), 106 P0H.1/AD9 (io), 111 P0H.2/AD10 (io), 112 P0H.3/AD11 (io), 113 P0H.4/AD12 (io), 114 P0H.5/AD13 (io), 115 P0H.6/AD14 (io), 116 P0H.7/AD15 (io), 117 P1L.0/A0 (io), 118 P1L.1/A1 (io), 119 P1L.2/A2 (io), 120 P1L.3/A3 (io), 121 P1L.4/A4 (io), 122 P1L.5/A5 (io), 123 P1L.6/A6 (io), 124 P1L.7/A7/CC22IO (io), 127 P1H.0/A8/CC23IO (io), 128 P1H.1/A9/MRST1 (io), 129 P1H.2/A10/MTSR1 (io), 130 P1H.3/A11/SCLK1 (io), 131 P1H.4/A12/CC24IO (io), 132 P1H.5/A13/CC25IO (io), 133 P1H.6/A14/CC26IO (io), 134 P1H.7/A15/CC27IO (io)
part B pins: 1 NC "No connection. It is recommended not to connect these pins to the PCB.", 2 NC "No connection. It is recommended not to connect these pins to the PCB.", 4 ~{NMI} (in) "Non-Maskable Interrupt Input. A high to low transition at this pin causes the CPU to vector to the NMI trap routine. When the PWRDN (power down) instruction is executed, the N\M\I\ pin must be low in order to force the XC161 (See Datasheet)", 57 ~{TRST} (in) "Test-System Reset Input. For normal system operation, pin T\R\S\T\ should be held low. A high level at this pin at the rising edge of R\S\T\I\N\ activates the XC164CM¡¯s debug system. In this case, pin T\R\S\T\ must b(See Datasheet)", 71 TCK (in) "JTAG Clock Input", 72 TDI (in) "JTAG Data In", 73 TDO (out) "JTAG Data Out", 74 TMS (in) "JTAG Test Mode Selection", 107 NC "No connection. It is recommended not to connect these pins to the PCB.", 108 NC "No connection. It is recommended not to connect these pins to the PCB.", 109 NC "No connection. It is recommended not to connect these pins to the PCB.", 110 NC "No connection. It is recommended not to connect these pins to the PCB.", 137 XTAL2 "Output of the main oscillator amplifier circuit", 138 XTAL1 "Input to the main oscillator amplifier and input to the internal clock generator.", 140 XTAL3 "Input to the auxiliary (32-kHz) oscillator amplifier", 141 XTAL4 "Output of the auxiliary (32-kHz) oscillator amplifier circuit", 142 ~{RSTIN} (in) "Reset Input with Schmitt-Trigger characteristics. A low-level at this pin while the oscillator is running resets the XC161. A spike filter suppresses input pulses < 10 ns. Input pulses > 100 ns safely pass the filter. The (See Datasheet)", 143 ~{BRKOUT} (out) "Debug System: Break Out", 144 ~{BRKIN} (in) "Debug System: Break In"
part C pins: 5 VSSP (power) "Digital Ground", 6 VDDP (power) "Digital Pad Supply Voltage (Pin Output Drivers): +5 V during normal operation and idle mode.", 19 VSSP (power) "Digital Ground", 20 VDDP (power) "Digital Pad Supply Voltage (Pin Output Drivers): +5 V during normal operation and idle mode.", 27 VSSP (power) "Digital Ground", 28 VDDP (power) "Digital Pad Supply Voltage (Pin Output Drivers): +5 V during normal operation and idle mode.", 35 VSSP (power) "Digital Ground", 36 VSSP (power) "Digital Ground", 37 VSSP (power) "Digital Ground", 38 VSSP (power) "Digital Ground", 41 VAREF (power) "Reference voltage for the A/D converter.", 42 VAGND (power) "Reference ground for the A/D converter.", 47 VSSI (power) "Digital Ground", 48 VDDI (power) "Digital Core Supply Voltage (On-Chip Modules): +2.5 V during normal operation and idle mode.", 58 VDDP (power) "Digital Pad Supply Voltage (Pin Output Drivers): +5 V during normal operation and idle mode.", 78 VDDI (power) "Digital Core Supply Voltage (On-Chip Modules): +2.5 V during normal operation and idle mode.", 79 VSSI (power) "Digital Ground", 88 VDDP (power) "Digital Pad Supply Voltage (Pin Output Drivers): +5 V during normal operation and idle mode.", 89 VSSP (power) "Digital Ground", 103 VDDP (power) "Digital Pad Supply Voltage (Pin Output Drivers): +5 V during normal operation and idle mode.", 104 VSSP (power) "Digital Ground", 125 VDDP (power) "Digital Pad Supply Voltage (Pin Output Drivers): +5 V during normal operation and idle mode.", 126 VSSP (power) "Digital Ground", 135 VDDI (power) "Digital Core Supply Voltage (On-Chip Modules): +2.5 V during normal operation and idle mode.", 136 VSSI (power) "Digital Ground", 139 VSSI (power) "Digital Ground"

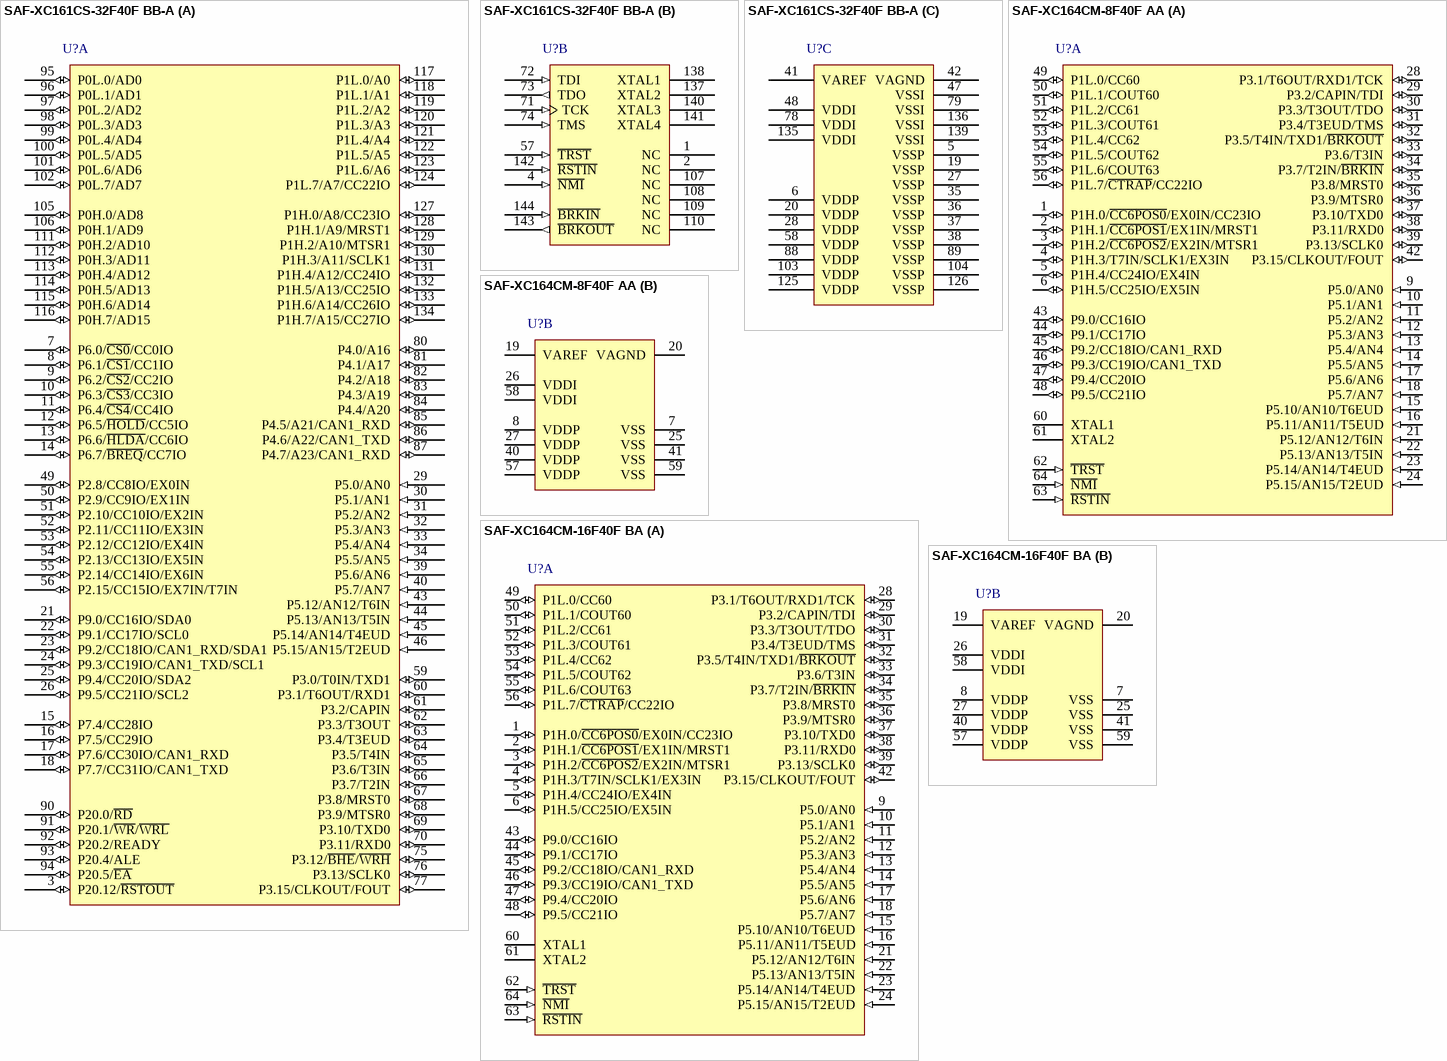
[diagram p16: symbols SAF-XC161CS-32F40F BB-A to SAF-XC164CM-16F40F BA]

## SAF-XC161CS-32F40F BB-A
designator U?
40 MHz XC166 MCU with 256 KByte Program Memory, 12 KByte SRAM, 5 V, -40 to 85 degC, PG-TQFP-144, Reel, Green; Manufacturer: Infineon; PartNumber: SAF-XC161CS-32F40F BB-A; A / D input lines (incl. FADC): 12; CAN Nodes: 2; Digital I/O Lines: 99; DSP functionality (e.g MDU/MAC): TRUE; I/O Operation Voltages: 5 V; Instruction width [bits]: 16; Max Clock Frequency: 40 MHz; Number of ADC Modules: 1; Power Modes: 3; Serial I/O Interfaces: 5; Timed I/O Pins (PWM-Ch,CAPCOM): 32; Timer / Counter: 9; Type of Memory: Flash; Type of Serial I/O Interfaces: ASC(2), SSC(2), I2C(1); DatasheetVersion: Rev. 1.2; PackageVersion: V1.1, 08/2006; PackageReference: PG-TQFP-144-7; PackageDescription: 144-Pin Plastic Green Thin Quad Flat Package, Body 20 x 20 mm, Pitch 0.5 mm; Supplier 1: Mouser; Supplier Part Number 1: 726-SAFXC161CS32F40F; Supplier 2: Digi-Key; Supplier Part Number 2: SAF-XC161CS-32F40F BB-A-ND; External Bus interface: TRUE; Green: TRUE; Halogen-free: TRUE; Oscillator Watchdog: TRUE; Packing: Reel; Program Memory: 256 KByte; Real Time Clock (RTC): TRUE; SRAM (incl. Cache): 12 KByte; Watchdog Timer: TRUE; Mounting Technology: Surface Mount; Code_JEDEC: J-STD-020C; ComponentLink1Description: Manufacturer URL; ComponentLink1URL: http://www.infineon.com/; ComponentLink2Description: Datasheet; ComponentLink2URL: http://www.infineon.com/dgdl/xc161_32_ds_v1.2_2006_08.pdf?folderId=db3a304412b407950112b409d4b00386&fileId=db3a304412b407950112b41cdddf2f02; ComponentLink3Description: Package Specification; ComponentLink3URL: http://www.infineon.com/dgdl/xc167_32_ds_v1.1_2006_08.pdf?folderId=db3a304412b407950112b408e8c90004&fileId=db3a304412b407950112b41c637b2e04&sId=db3a30433d956bc3013d9c1678401507
footprint INF-PG-TQFP-144-7_N (QFP, 144-Leads, Body 20x20mm, Pitch 0.5mm, IPC Medium Density)
footprint INF-PG-TQFP-144-7_L (QFP, 144-Leads, Body 20x20mm, Pitch 0.5mm, IPC High Density)
footprint INF-PG-TQFP-144-7_M (QFP, 144-Leads, Body 20x20mm, Pitch 0.5mm, IPC Low Density)
part A pins: 3 P20.12/~{RSTOUT} (io), 7 P6.0/~{CS0}/CC0IO (io), 8 P6.1/~{CS1}/CC1IO (io), 9 P6.2/~{CS2}/CC2IO (io), 10 P6.3/~{CS3}/CC3IO (io), 11 P6.4/~{CS4}/CC4IO (io), 12 P6.5/~{HOLD}/CC5IO (io), 13 P6.6/~{HLDA}/CC6IO (io), 14 P6.7/~{BREQ}/CC7IO (io), 15 P7.4/CC28IO (io), 16 P7.5/CC29IO (io), 17 P7.6/CC30IO/CAN1_RXD (io), 18 P7.7/CC31IO/CAN1_TXD (io), 21 P9.0/CC16IO/SDA0 (io), 22 P9.1/CC17IO/SCL0 (io), 23 P9.2/CC18IO/CAN1_RXD/SDA1 (io), 24 P9.3/CC19IO/CAN1_TXD/SCL1 (io), 25 P9.4/CC20IO/SDA2 (io), 26 P9.5/CC21IO/SCL2 (io), 29 P5.0/AN0 (in), 30 P5.1/AN1 (in), 31 P5.2/AN2 (in), 32 P5.3/AN3 (in), 33 P5.4/AN4 (in), 34 P5.5/AN5 (in), 39 P5.6/AN6 (in), 40 P5.7/AN7 (in), 43 P5.12/AN12/T6IN (in), 44 P5.13/AN13/T5IN (in), 45 P5.14/AN14/T4EUD (in), 46 P5.15/AN15/T2EUD (in), 49 P2.8/CC8IO/EX0IN (io), 50 P2.9/CC9IO/EX1IN (io), 51 P2.10/CC10IO/EX2IN (io), 52 P2.11/CC11IO/EX3IN (io), 53 P2.12/CC12IO/EX4IN (io), 54 P2.13/CC13IO/EX5IN (io), 55 P2.14/CC14IO/EX6IN (io), 56 P2.15/CC15IO/EX7IN/T7IN (io), 59 P3.0/T0IN/TXD1 (io), 60 P3.1/T6OUT/RXD1 (io), 61 P3.2/CAPIN (io), 62 P3.3/T3OUT (io), 63 P3.4/T3EUD (io), 64 P3.5/T4IN (io), 65 P3.6/T3IN (io), 66 P3.7/T2IN (io), 67 P3.8/MRST0 (io), 68 P3.9/MTSR0 (io), 69 P3.10/TXD0 (io), 70 P3.11/RXD0 (io), 75 P3.12/~{BHE}/~{WRH} (io), 76 P3.13/SCLK0 (io), 77 P3.15/CLKOUT/FOUT (io), 80 P4.0/A16 (io), 81 P4.1/A17 (io), 82 P4.2/A18 (io), 83 P4.3/A19 (io), 84 P4.4/A20 (io), 85 P4.5/A21/CAN1_RXD (io), 86 P4.6/A22/CAN1_TXD (io), 87 P4.7/A23/CAN1_RXD (io), 90 P20.0/~{RD} (io), 91 P20.1/~{WR}/~{WRL} (io), 92 P20.2/READY (io), 93 P20.4/ALE (io), 94 P20.5/~{EA} (io), 95 P0L.0/AD0 (io), 96 P0L.1/AD1 (io), 97 P0L.2/AD2 (io), 98 P0L.3/AD3 (io), 99 P0L.4/AD4 (io), 100 P0L.5/AD5 (io), 101 P0L.6/AD6 (io), 102 P0L.7/AD7 (io), 105 P0H.0/AD8 (io), 106 P0H.1/AD9 (io), 111 P0H.2/AD10 (io), 112 P0H.3/AD11 (io), 113 P0H.4/AD12 (io), 114 P0H.5/AD13 (io), 115 P0H.6/AD14 (io), 116 P0H.7/AD15 (io), 117 P1L.0/A0 (io), 118 P1L.1/A1 (io), 119 P1L.2/A2 (io), 120 P1L.3/A3 (io), 121 P1L.4/A4 (io), 122 P1L.5/A5 (io), 123 P1L.6/A6 (io), 124 P1L.7/A7/CC22IO (io), 127 P1H.0/A8/CC23IO (io), 128 P1H.1/A9/MRST1 (io), 129 P1H.2/A10/MTSR1 (io), 130 P1H.3/A11/SCLK1 (io), 131 P1H.4/A12/CC24IO (io), 132 P1H.5/A13/CC25IO (io), 133 P1H.6/A14/CC26IO (io), 134 P1H.7/A15/CC27IO (io)
part B pins: 1 NC "No connection. It is recommended not to connect these pins to the PCB.", 2 NC "No connection. It is recommended not to connect these pins to the PCB.", 4 ~{NMI} (in) "Non-Maskable Interrupt Input. A high to low transition at this pin causes the CPU to vector to the NMI trap routine. When the PWRDN (power down) instruction is executed, the N\M\I\ pin must be low in order to force the (See Datasheet)", 57 ~{TRST} (in) "Test-System Reset Input. For normal system operation, pin T\R\S\T\ should be held low. A high level at this pin at the rising edge of R\S\T\I\N\ activates the XC164CM’s debug system. In this case, pin T\R\S\T\ must b(See Datasheet)", 71 TCK (in) "Debug System: JTAG Clock Input", 72 TDI (in) "Debug System: JTAG Data In", 73 TDO (out) "Debug System: JTAG Data Out", 74 TMS (in) "Debug System: JTAG Test Mode Selection", 107 NC "No connection. It is recommended not to connect these pins to the PCB.", 108 NC "No connection. It is recommended not to connect these pins to the PCB.", 109 NC "No connection. It is recommended not to connect these pins to the PCB.", 110 NC "No connection. It is recommended not to connect these pins to the PCB.", 137 XTAL2 "Output of the main oscillator amplifier circuit", 138 XTAL1 "Input to the main oscillator amplifier and input to the internal clock generator", 140 XTAL3 "Input to the auxiliary (32-kHz) oscillator amplifier", 141 XTAL4 "Output of the auxiliary (32-kHz) oscillator amplifier circuit", 142 ~{RSTIN} (in) "Reset Input with Schmitt-Trigger characteristics. A low level at this pin while the oscillator is running resets the C161PI. An internal pullup resistor permits power-on reset using only a capacitor connected to 9SS. A spike (See Datasheet)", 143 ~{BRKOUT} (out) "Debug System: Break Out", 144 ~{BRKIN} (in) "Debug System: Break In"
part C pins: 5 VSSP (power) "Digital Ground", 6 VDDP (power) "Digital Pad Supply Voltage (Pin Output Drivers):+5 V during normal operation and idle mode.", 19 VSSP (power) "Digital Ground", 20 VDDP (power) "Digital Pad Supply Voltage (Pin Output Drivers):+5 V during normal operation and idle mode.", 27 VSSP (power) "Digital Ground", 28 VDDP (power) "Digital Pad Supply Voltage (Pin Output Drivers):+5 V during normal operation and idle mode.", 35 VSSP (power) "Digital Ground", 36 VSSP (power) "Digital Ground", 37 VSSP (power) "Digital Ground", 38 VSSP (power) "Digital Ground", 41 VAREF (power) "Reference voltage for the A/D converter.", 42 VAGND (power) "Reference ground for the A/D converter.", 47 VSSI (power) "Digital Ground", 48 VDDI (power) "Digital Core Supply Voltage (On-Chip Modules):+2.5 V during normal operation and idle mode.", 58 VDDP (power) "Digital Pad Supply Voltage (Pin Output Drivers):+5 V during normal operation and idle mode.", 78 VDDI (power) "Digital Core Supply Voltage (On-Chip Modules):+2.5 V during normal operation and idle mode.", 79 VSSI (power) "Digital Ground", 88 VDDP (power) "Digital Pad Supply Voltage (Pin Output Drivers):+5 V during normal operation and idle mode.", 89 VSSP (power) "Digital Ground", 103 VDDP (power) "Digital Pad Supply Voltage (Pin Output Drivers):+5 V during normal operation and idle mode.", 104 VSSP (power) "Digital Ground", 125 VDDP (power) "Digital Pad Supply Voltage (Pin Output Drivers):+5 V during normal operation and idle mode.", 126 VSSP (power) "Digital Ground", 135 VDDI (power) "Digital Core Supply Voltage (On-Chip Modules):+2.5 V during normal operation and idle mode.", 136 VSSI (power) "Digital Ground", 139 VSSI (power) "Digital Ground"

## SAF-XC164CM-8F40F AA
designator U?
40 MHz XC166 MCU with 64 KByte Program Memory, 6 KByte SRAM, 5 V, -40 to 85 degC, PG-LQFP-64, Reel, Green; Manufacturer: Infineon; PartNumber: SAF-XC164CM-8F40F AA; A / D input lines (incl. FADC): 14; CAN Nodes: 2; Digital I/O Lines: 47; DSP functionality (e.g MDU/MAC): TRUE; I/O Operation Voltages: 5 V; Instruction width [bits]: 16; Max Clock Frequency: 40 MHz; Number of ADC Modules: 1; Power Modes: 3; Serial I/O Interfaces: 4; SRAM (incl. Cache): 6 KByte; Timed I/O Pins (PWM-Ch,CAPCOM): 20; Timer / Counter: 9; Type of Memory: Flash; Type of Serial I/O Interfaces: ASC(2), SSC(2); DatasheetVersion: Rev. 1.4; PackageVersion: V1.2, 03/2007; PackageReference: PG-TQFP-64-8; PackageDescription: 64-Pin Plastic Thin Quad Flat Package, Body 10 x 10 mm, Pitch 0.5 mm; Supplier 1: Mouser; Supplier Part Number 1: 726-SAFXC164CM8F40FA; Supplier 2: Newark; Supplier Part Number 2: 47W3696; Supplier 3: Farnell; Supplier Part Number 3: 2212026; Supplier 4: Digi-Key; Supplier Part Number 4: SAF-XC164CM-8F40FAAINCT-ND; External Bus interface: TRUE; Green: TRUE; Halogen-free: TRUE; Oscillator Watchdog: TRUE; Packing: Reel; Program Memory: 64 KByte; Real Time Clock (RTC): TRUE; Watchdog Timer: TRUE; Mounting Technology: Surface Mount; ComponentLink1Description: Manufacturer URL; ComponentLink1URL: http://www.infineon.com/; ComponentLink2Description: Datasheet; ComponentLink2URL: http://www.infineon.com/dgdl/xc164cm_ds_v1.4_2007_03.pdf?folderId=db3a304412b407950112b408e8c90004&fileId=db3a304412b407950112b40c0f3c0a1b; ComponentLink3Description: Package Specification; ComponentLink3URL: http://www.infineon.com/dgdl/xc164lm_ds_v1.2_2007_03.pdf?folderId=db3a304412b407950112b408e8c90004&fileId=db3a304412b407950112b40c22200a81&sId=db3a30433d956bc3013d9e7060dd2801
footprint INF-PG-TQFP-64-8_N (QFP, 64-Leads, Body 10x10mm, Pitch 0.5mm, IPC Medium Density)
footprint INF-PG-TQFP-64-8_L (QFP, 64-Leads, Body 10x10mm, Pitch 0.5mm, IPC High Density)
footprint INF-PG-TQFP-64-8_M (QFP, 64-Leads, Body 10x10mm, Pitch 0.5mm, IPC Low Density)
part A pins: 1 P1H.0/~{CC6POS0}/EX0IN/CC23IO (io), 2 P1H.1/~{CC6POS1}/EX1IN/MRST1 (io), 3 P1H.2/~{CC6POS2}/EX2IN/MTSR1 (io), 4 P1H.3/T7IN/SCLK1/EX3IN (io), 5 P1H.4/CC24IO/EX4IN (io), 6 P1H.5/CC25IO/EX5IN (io), 9 P5.0/AN0 (in), 10 P5.1/AN1 (in), 11 P5.2/AN2 (in), 12 P5.3/AN3 (in), 13 P5.4/AN4 (in), 14 P5.5/AN5 (in), 15 P5.10/AN10/T6EUD (in), 16 P5.11/AN11/T5EUD (in), 17 P5.6/AN6 (in), 18 P5.7/AN7 (in), 21 P5.12/AN12/T6IN (in), 22 P5.13/AN13/T5IN (in), 23 P5.14/AN14/T4EUD (in), 24 P5.15/AN15/T2EUD (in), 28 P3.1/T6OUT/RXD1/TCK (io), 29 P3.2/CAPIN/TDI (io), 30 P3.3/T3OUT/TDO (io), 31 P3.4/T3EUD/TMS (io), 32 P3.5/T4IN/TXD1/~{BRKOUT} (io), 33 P3.6/T3IN (io), 34 P3.7/T2IN/~{BRKIN} (io), 35 P3.8/MRST0 (io), 36 P3.9/MTSR0 (io), 37 P3.10/TXD0 (io), 38 P3.11/RXD0 (io), 39 P3.13/SCLK0 (io), 42 P3.15/CLKOUT/FOUT (io), 43 P9.0/CC16IO (io), 44 P9.1/CC17IO (io), 45 P9.2/CC18IO/CAN1_RXD (io), 46 P9.3/CC19IO/CAN1_TXD (io), 47 P9.4/CC20IO (io), 48 P9.5/CC21IO (io), 49 P1L.0/CC60 (io), 50 P1L.1/COUT60 (io), 51 P1L.2/CC61 (io), 52 P1L.3/COUT61 (io), 53 P1L.4/CC62 (io), 54 P1L.5/COUT62 (io), 55 P1L.6/COUT63 (io), 56 P1L.7/~{CTRAP}/CC22IO (io), 60 XTAL1 "XTAL1: Input to the oscillator amplifier and input to the internal clock generator To clock the device from an external source, drive XTAL1, while leaving XTAL2 unconnected. Minimum and maximum high/low and rise/fall times (See Datasheet)", 61 XTAL2 "XTAL2: Output of the oscillator amplifier circuit", 62 ~{TRST} (in) "Test-System Reset Input. For normal system operation, pin T\R\S\T\ should be held low. A high level at this pin at the rising edge of R\S\T\I\N\ enables the hardware configuration and activates the XC164CM’s debug system(See Datasheet)", 63 ~{RSTIN} (in) "Reset Input with Schmitt-Trigger characteristics. A low-level at this pin while the oscillator is running resets the XC164CM. A spike filter suppresses input pulses < 10 ns. Input pulses > 100 ns safely pass the filter. The (See Datasheet)", 64 ~{NMI} (in) "Non-Maskable Interrupt Input. A high to low transition at this pin causes the CPU to vector to the NMI trap routine. When the PWRDN (power down) instruction is executed, the N\M\I\ pin must be low in order to force the (See Datasheet)"
part B pins: 7 VSS (power) "Digital Ground", 8 VDDP (power) "Digital Pad Supply Voltage (Pin Output Drivers): +5 V during normal operation and idle mode. Please refer to the Operating Condition Parameters", 19 VAREF (power) "Reference voltage for the A/D converter", 20 VAGND (power) "Reference ground for the A/D converter", 25 VSS (power) "Digital Ground", 26 VDDI (power) "Digital Core Supply Voltage (On-Chip Modules): +2.5 V during normal operation and idle mode. Please refer to the Operating Condition Parameters", 27 VDDP (power) "Digital Pad Supply Voltage (Pin Output Drivers): +5 V during normal operation and idle mode. Please refer to the Operating Condition Parameters", 40 VDDP (power) "Digital Pad Supply Voltage (Pin Output Drivers): +5 V during normal operation and idle mode. Please refer to the Operating Condition Parameters", 41 VSS (power) "Digital Ground", 57 VDDP (power) "Digital Pad Supply Voltage (Pin Output Drivers): +5 V during normal operation and idle mode. Please refer to the Operating Condition Parameters", 58 VDDI (power) "Digital Core Supply Voltage (On-Chip Modules): +2.5 V during normal operation and idle mode. Please refer to the Operating Condition Parameters", 59 VSS (power) "Digital Ground"